# EAGLE library part MOD_CAM-M8Q (library akita)
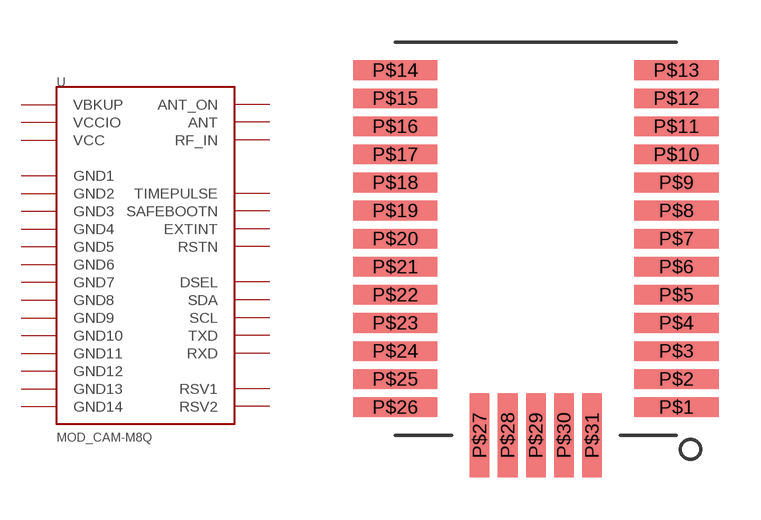
[diagram p84: symbol with the pads of MOD_CAM-M8Q; footprint MOD_CAM-M8Q]

Designator prefix -

## MOD_CAM-M8Q  [MOD_CAM-M8Q]
P$1  VCCIO
P$2  RSV1
P$3  SDA
P$4  GND1
P$5  GND2
P$6  SCL
P$7  EXTINT
P$8  VBKUP
P$9  VCC
P$10  GND3
P$11  GND4
P$12  GND5
P$13  GND6
P$14  GND7
P$15  GND8
P$16  ANT
P$17  RF_IN
P$18  GND9
P$19  GND10
P$20  DSEL
P$21  GND11
P$22  GND12
P$23  RSTN
P$24  SAFEBOOTN
P$25  TXD
P$26  RXD
P$27  GND13
P$28  RSV2
P$29  TIMEPULSE
P$30  ANT_ON
P$31  GND14

## Footprint MOD_CAM-M8Q (pad centres in mm)
smd 3 x 0.7: P$1 5,-13; P$2 5,-12; P$3 5,-11; P$4 5,-10; P$5 5,-9; P$6 5,-8; P$7 5,-7; P$8 5,-6; P$9 5,-5; P$10 5,-4; P$11 5,-3; P$12 5,-2; P$13 5,-1; P$14 -5,-1; P$15 -5,-2; P$16 -5,-3; P$17 -5,-4; P$18 -5,-5; P$19 -5,-6; P$20 -5,-7; P$21 -5,-8; P$22 -5,-9; P$23 -5,-10; P$24 -5,-11; P$25 -5,-12; P$26 -5,-13
smd 0.7 x 3: P$27 -2,-14; P$28 -1,-14; P$29 0,-14; P$30 1,-14; P$31 2,-14